# EAGLE library part PINHD-1X6 (library 25pinhead)
PIN HEADER
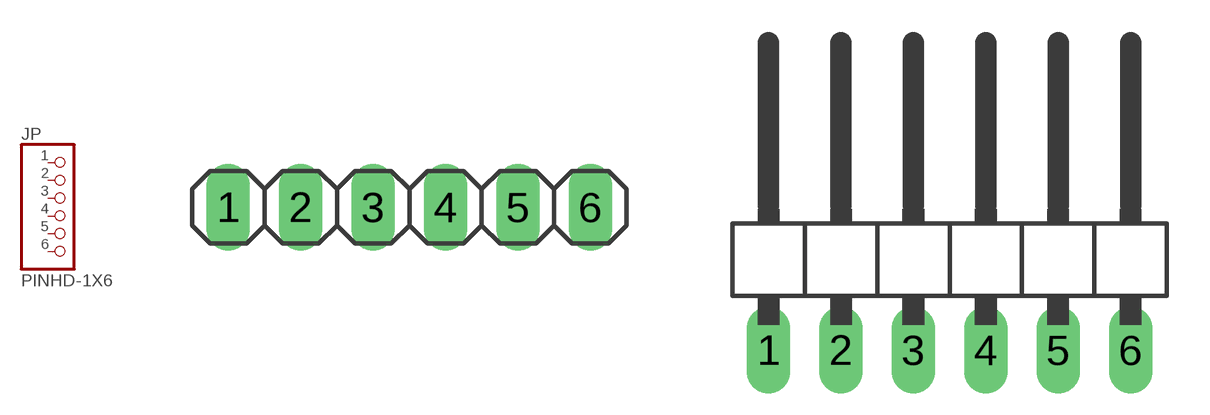
[diagram p29: symbol with the pads of 1X06; footprints 1X06, 1X06/90]

Designator prefix JP

## PINHD-1X6  [1X06]
1  1  pas
2  2  pas
3  3  pas
4  4  pas
5  5  pas
6  6  pas

## PINHD-1X6/90  [1X06/90]
Pads as for 1X06

## Footprint 1X06 (pad centres in mm)
PIN HEADER
drill 1.016 long: 1 -6.35,0; 2 -3.81,0; 3 -1.27,0; 4 1.27,0; 5 3.81,0; 6 6.35,0

## Footprint 1X06/90 (pad centres in mm)
PIN HEADER
drill 1.016 long: 1 -6.35,-3.81; 2 -3.81,-3.81; 3 -1.27,-3.81; 4 1.27,-3.81; 5 3.81,-3.81; 6 6.35,-3.81